# Altium schematic symbol library ExtraComponents.SchLib: 11 symbols
Pins are listed as number, name and electrical type; pins without a type are passive.

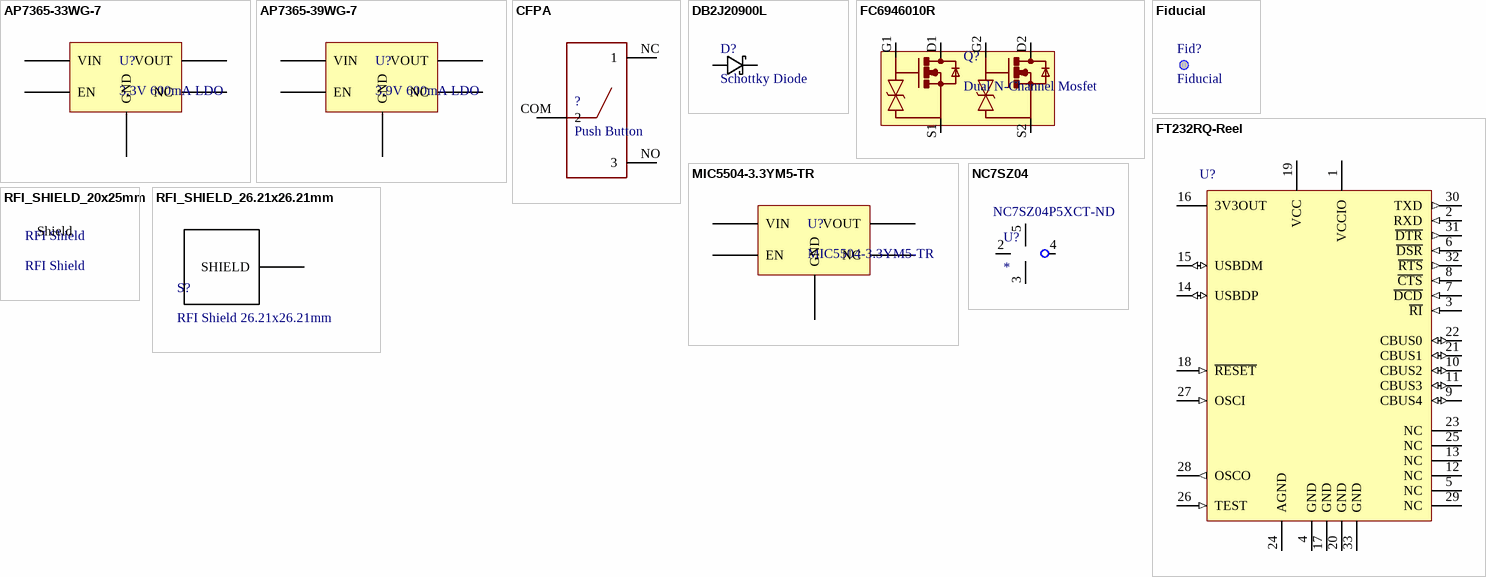
[diagram p0: symbols AP7365-33WG-7 to RFI_SHIELD_26.21x26.21mm]

## AP7365-33WG-7
designator U?, comment 3.3V 600mA LDO
AP7365-33WG-7 3.9V 600mA LDO; Supplier 1: Digi-Key; Supplier 2: Arrow; Supplier Part Number 1: AP7365-33WG-7DICT-ND; Supplier Part Number 2: 8jDkOUuQMN4bQRMK7daIL_aN6lyR31ZrRHAvlbe4_1s
footprint AP7365-SOT25 (high-density) (AP7365-SOT25 LDO (high-density))
pins: EN, GND, NC, VIN, VOUT

## AP7365-39WG-7
designator U?, comment 3.9V 600mA LDO
AP7365-39WG-7 3.9V 600mA LDO; Supplier 1: Digi-Key; Supplier Part Number 1: AP7365-39WG-7DICT-ND
footprint AP7365-SOT25 (AP7365-SOT25 LDO (high-density))
pins: EN, GND, NC, VIN, VOUT

## CFPA
designator ?, comment Push Button
CFPA; Supplier 1: Digi-Key; Supplier Part Number 1: 563-1246-2-ND
footprint Push_Button (CFPA-1FB4)
pins: COM 2, NC 1, NO 3

## DB2J20900L
designator D?, comment Schottky Diode
Schottky Diode DB2J20900L; Supplier 1: Digi-Key; Supplier Part Number 1: DB2J20900LTR-ND
footprint DB2J20900L (high-density) (Panasonic Schottkz Barrier Diode DB2J20900L)
pins: 1, 2

## FC6946010R
designator Q?, comment Dual N-Channel Mosfet
Panasonic Dual N-Channel Moseft FC6946010R; Supplier 1: Newark; Supplier 2: Digi-Key; Supplier Part Number 1: 63W2173; Supplier Part Number 2: FC6946010RCT-ND
footprint FC6946010R (high-density) (Panasonic Dual N-Channel Mosfet FC6946010R)
pins: D1, D2, G1, G2, S1, S2

## Fiducial
designator Fid?
Fiducial mark from Patrick's library
footprint Fiducial

## FT232RQ-Reel
designator U?
USB UART Asynchronous Serial Data Transfer Chip, 32-pin QFN, Tape and Reel; Manufacturer: FTDI; PartNumber: FT232RQ-Reel; DatasheetVersion: ver 2.10, Mar-2012; PackageVersion: Mar-12; PackageReference: PQFN5X5-32; PackageDescription: 32-Pin Quad Flat No-Lead 0.5 mm Pitch, Pullback, 3.2 x 3.2 mm Exposed Pad; ComponentLink1Description: Manufacturer URL; ComponentLink1URL: http://www.ftdichip.com/; ComponentLink2Description: Datasheet; ComponentLink2URL: http://www.ftdichip.com/Support/Documents/DataSheets/ICs/DS_FT232R.pdf
footprint PQFN5X5-32_V_FTDI_BIG_VIAS (QFN, 32-Leads, Body 5x5mm, Pitch 0.5mm, Thermal Pad 3.3x3.3mm, FTDI Recommended)
footprint PQFN5X5-32_V_FTDI_BIG_VIAS_LEADS (QFN, 32-Leads, Body 5x5mm, Pitch 0.5mm, Thermal Pad 3.3x3.3mm, FTDI Recommended)
pins: 1 VCCIO (power), 2 RXD (in), 3 ~{RI} (in), 4 GND (power), 5 NC, 6 ~{DSR} (in), 7 ~{DCD} (in), 8 ~{CTS} (in), 9 CBUS4 (io), 10 CBUS2 (io), 11 CBUS3 (io), 12 NC, 13 NC, 14 USBDP (io), 15 USBDM (io), 16 3V3OUT (power), 17 GND (power), 18 ~{RESET} (in), 19 VCC (power), 20 GND (power), 21 CBUS1 (io), 22 CBUS0 (io), 23 NC, 24 AGND (power), 25 NC, 26 TEST (in), 27 OSCI (in), 28 OSCO (out), 29 NC, 30 TXD (out), 31 ~{DTR} (out), 32 ~{RTS} (out), 33 GND (power)

## MIC5504-3.3YM5-TR
designator U?
Supplier 1: Digi-Key; Supplier Part Number 1: 576-4764-2-ND; Supplier 2: Digi-Key; Supplier Part Number 2: 576-4764-6-ND
footprint MIC5504-3.3YM5-TR (SOT23, 5-Leads, Body 2.90x2.80mm, Pitch 0.95mm, IPC Medium Density)
pins: EN, GND, NC, VIN, VOUT

## NC7SZ04
designator U?  Supplier Part Number 1: NC7SZ04P5XCT-ND
NC7SZ04 TinyLogic UHS Inverter SC70 Package; Supplier 1: Digi-Key
footprint NC7SZ04_SC70 (NC7SZ04 TinyLogic UHS Inverter SC70 Package)
pins: 2 in, 3 GND, 4 out, 5 VCC

## RFI_SHIELD_20x25mm
designator RFI Shield, comment RFI Shield
RF Shield 20x25x3mm; Supplier 1: Digi-Key; Supplier Part Number 1: 952-2633-ND
footprint RFI_SHIELD_20x25mm (RFI Shield 20x25mm)
pins: Shield

## RFI_SHIELD_26.21x26.21mm
designator S?, comment RFI Shield 26.21x26.21mm
Supplier 1: Digi-Key; Supplier Part Number 1: 903-1008-1-ND
footprint RFI_SHIELD_26.21x26.21MM_Padded
pins: SHIELD